# EAGLE library part LM239PW (library Bits_library_eagle)
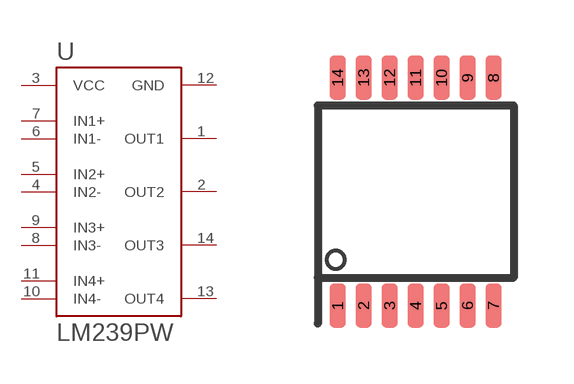
[diagram p10: symbol with the pads of TSSOP14; footprint TSSOP14]

Designator prefix -

## LM239PW  [TSSOP14]
1  OUT1
2  OUT2
3  VCC
4  IN2-
5  IN2+
6  IN1-
7  IN1+
8  IN3-
9  IN3+
10  IN4-
11  IN4+
12  GND
13  OUT4
14  OUT3

## Footprint TSSOP14 (pad centres in mm)
smd 0.4 x 1.1: 1 -1.95,-2.85; 2 -1.3,-2.85; 3 -0.65,-2.85; 4 0,-2.85; 5 0.65,-2.85; 6 1.3,-2.85; 7 1.95,-2.85; 8 1.95,2.85; 9 1.3,2.85; 10 0.65,2.85; 11 0,2.85; 12 -0.65,2.85; 13 -1.3,2.85; 14 -1.95,2.85